# EAGLE library part MPR121QR2 (library Common-Parts-Library-Eagle)
Capacitive Touch Sensors Low Voltage Touch Pad
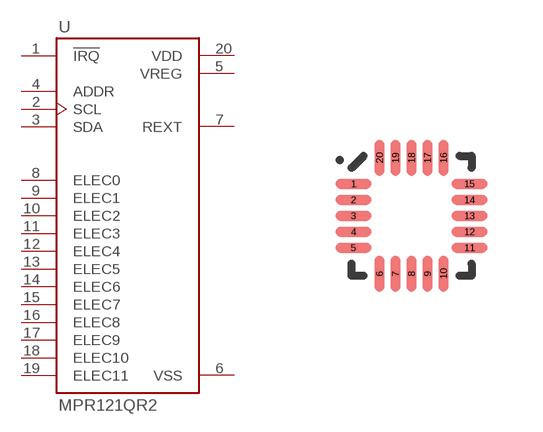
[diagram p59: symbol with the pads of QFN40P300X300X60-20N; footprint QFN40P300X300X60-20N]

Designator prefix U

## MPR121QR2 (MANUFACTURER: Freescale NXP)  [QFN40P300X300X60-20N]
1  !IRQ  in
2  SCL  in
3  SDA
4  ADDR  in
5  VREG  pwr
6  VSS  pwr
7  REXT  pas
8  ELEC0  in
9  ELEC1  in
10  ELEC2  in
11  ELEC3  in
12  ELEC4  in
13  ELEC5  in
14  ELEC6  in
15  ELEC7  in
16  ELEC8  in
17  ELEC9  in
18  ELEC10  in
19  ELEC11  in
20  VDD  pwr

## Footprint QFN40P300X300X60-20N (pad centres in mm)
smd 0.9 x 0.25: 1 -1.45,0.8; 2 -1.45,0.4; 3 -1.45,0; 4 -1.45,-0.4; 5 -1.45,-0.8; 11 1.45,-0.8; 12 1.45,-0.4; 13 1.45,0; 14 1.45,0.4; 15 1.45,0.8
smd 0.25 x 0.9: 6 -0.8,-1.45; 7 -0.4,-1.45; 8 0,-1.45; 9 0.4,-1.45; 10 0.8,-1.45; 16 0.8,1.45; 17 0.4,1.45; 18 0,1.45; 19 -0.4,1.45; 20 -0.8,1.45